# Altium footprint library CON-JACK.PcbLib: 1 footprints
Each footprint in its own frame and in the unit in brackets; x right, y up, seen from the top. Pads: shape width x height; smd on the part's side, far side on the other; paste and mask are expansions set on the pad; w line width, h text height; cw(c..) or ccw(c..) is an arc to the next point about the centre after c.
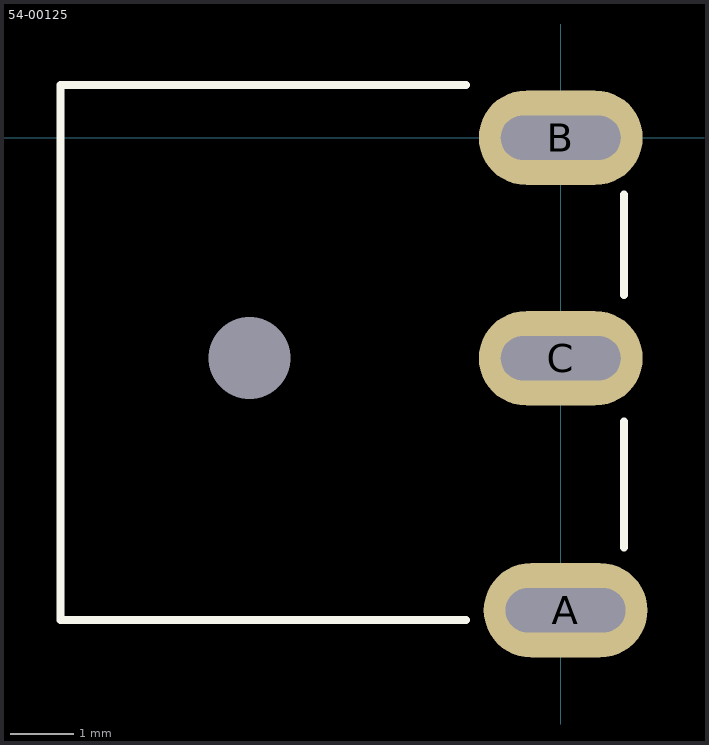
[diagram p0: the footprint, top view; thin cyan lines are the x and y axes]

## 54-00125 [mm] "CONN JACK R/A PCB 3.5X1.1MM"
pads (4):
  round 0 hole 1.3 unplated: 12(-4.939,-3.494)
  oval 2.6x1.5 hole 0.7 slot 1.9 at 0 deg unplated: A(0.077,-7.5) B(0,0) C(0,-3.5)
Top Overlay:
  lines w0.127: -1.5,-7.658 -7.94,-7.658 -7.94,0.84 -1.5,0.84 ; 1,-6.5 1,-4.5 ; 1,-2.5 1,-0.9
3D body "54-00125 (2).STEP": height 5.51, standoff -2.99, extent -7.94,-7.775 1.56,0.725